# Altium schematic symbol library FRDM_KL25Z.SchLib: 1 symbol
Pins are listed as number, name and electrical type; pins without a type are passive.

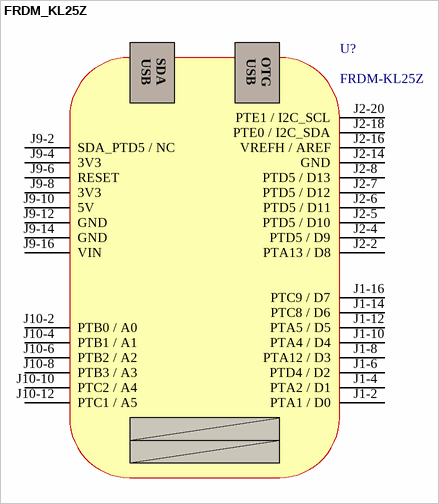
[diagram p0: symbol FRDM_KL25Z]

## FRDM_KL25Z
designator U?, comment FRDM-KL25Z
pins: J1-2 PTA1 / D0, J1-4 PTA2 / D1, J1-6 PTD4 / D2, J1-8 PTA12 / D3, J1-10 PTA4 / D4, J1-12 PTA5 / D5, J1-14 PTC8 / D6, J1-16 PTC9 / D7, J2-2 PTA13 / D8, J2-4 PTD5 / D9, J2-5 PTD5 / D10, J2-6 PTD5 / D11, J2-7 PTD5 / D12, J2-8 PTD5 / D13, J2-14 GND, J2-16 VREFH / AREF, J2-18 PTE0 / I2C_SDA, J2-20 PTE1 / I2C_SCL, J9-2 SDA_PTD5 / NC, J9-4 3V3, J9-6 RESET, J9-8 3V3, J9-10 5V, J9-12 GND, J9-14 GND, J9-16 VIN, J10-2 PTB0 / A0, J10-4 PTB1 / A1, J10-6 PTB2 / A2, J10-8 PTB3 / A3, J10-10 PTC2 / A4, J10-12 PTC1 / A5
text: USB; SDA; OTG